# Altium footprint library Microchip Power Management Line Regulator.PcbLib: 79 footprints (part 1 of 5)
Each footprint in its own frame and in the unit in brackets; x right, y up, seen from the top. Pads: shape width x height; smd on the part's side, far side on the other; paste and mask are expansions set on the pad; w line width, h text height; cw(c..) or ccw(c..) is an arc to the next point about the centre after c.
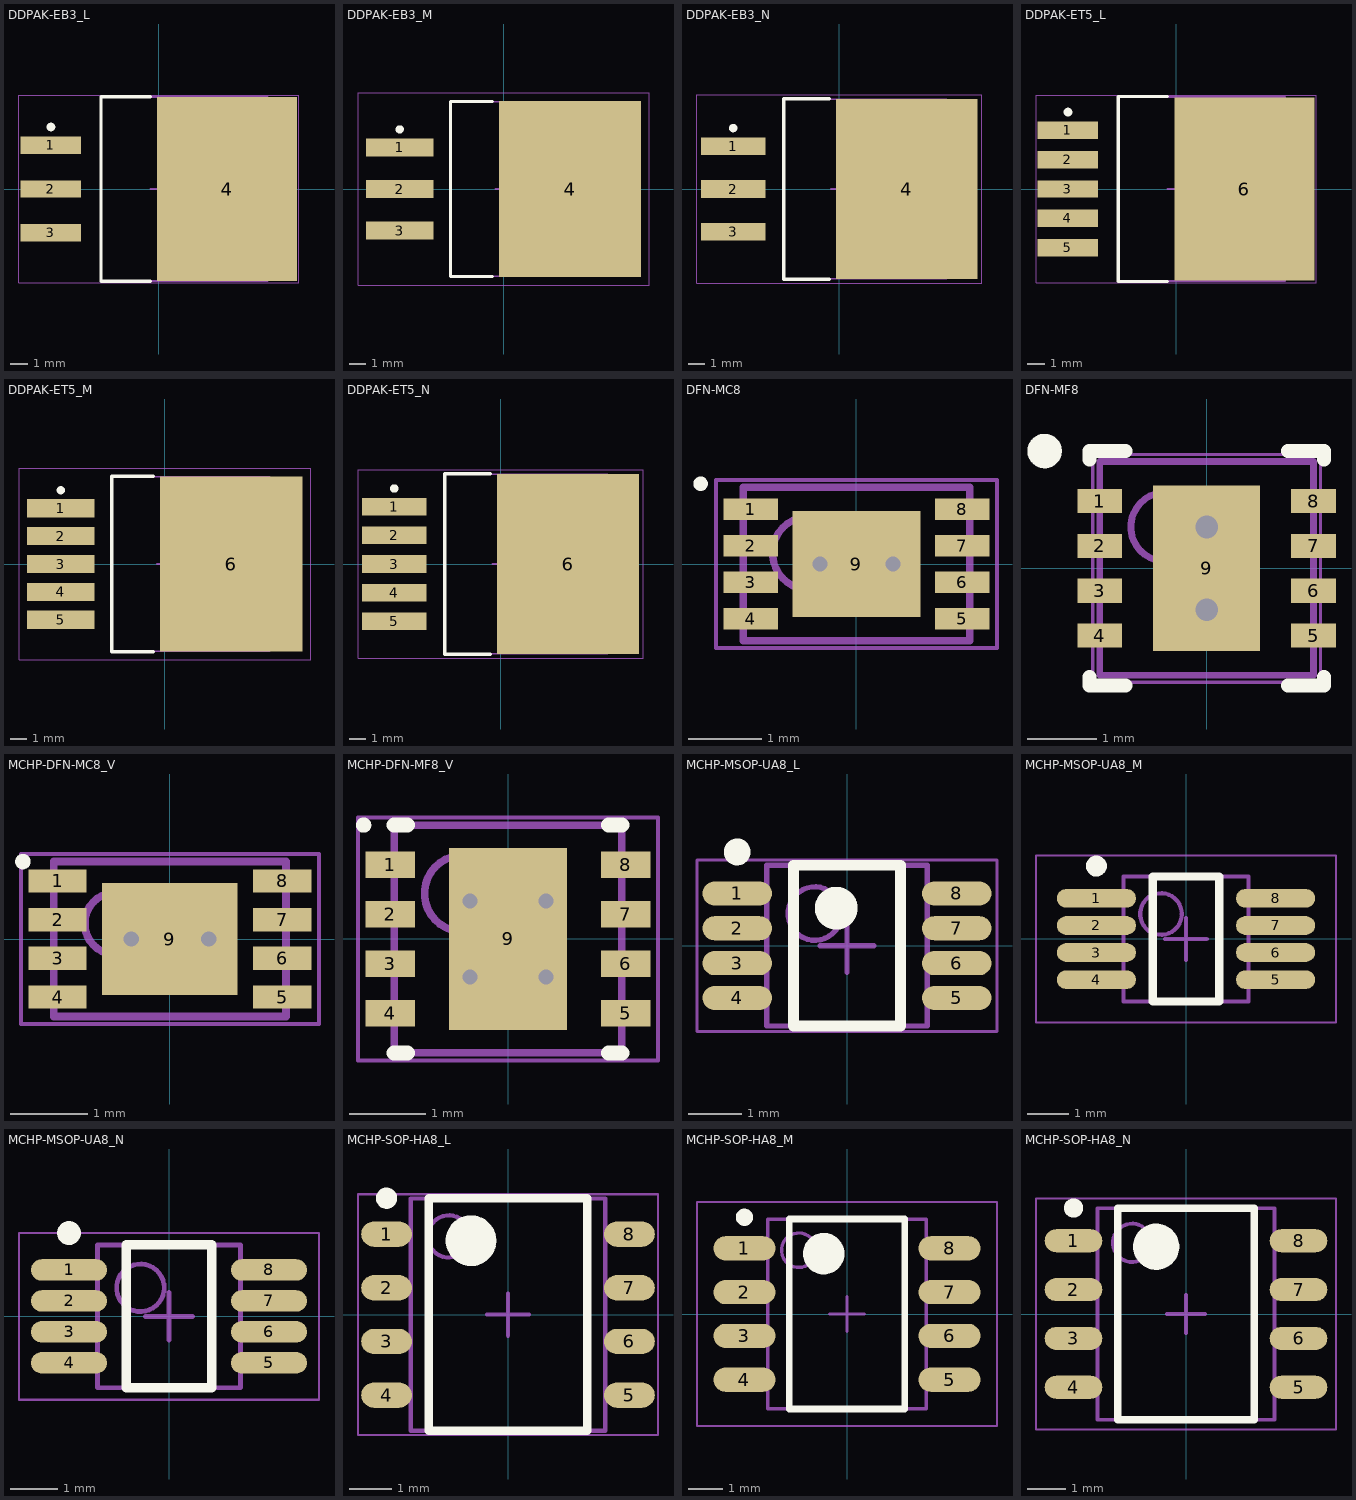
[diagram p0: the footprints below, top view; thin cyan lines are the x and y axes]

## DDPAK-EB3_L [mm] "D2-PAK, 4-Leads, Body 9x10.2mm, Pitch 2.54mm, Lead Span 14.9mm, IPC High Density"
height 4.83
pads (4):
  rect 3.5x1 smd: 1(-6.25,2.54) 2(-6.25,0) 3(-6.25,-2.54)
  rect 8.1x10.65 smd: 4(3.95,0)
Top Overlay:
  circle w0.25: c-6.25,3.59 r0.125
  lines w0.2: -0.5,-5.35 -3.35,-5.35 -3.35,5.35 -0.5,5.35
Mechanical 13:
  lines w0.1: -3.35,-5.325 6.3,-5.325 6.3,5.325 -3.35,5.325 -3.35,-5.325
Mechanical 15:
  lines w0.05: -8.1,-5.425 8.1,-5.425 8.1,5.425 -8.1,5.425 -8.1,-5.425
  lines w0.1: -0.5,0 0.5,0 ; 0,-0.5 0,0.5
3D body: height 4.83, standoff 0, extent -3.35,-5.325 6.3,5.325

## DDPAK-EB3_M [mm] "D2-PAK, 4-Leads, Body 9x10.2mm, Pitch 2.54mm, Lead Span 14.9mm, IPC Low Density"
height 4.83
pads (4):
  rect 4.1x1.1 smd: 1(-6.35,2.54) 2(-6.35,0) 3(-6.35,-2.54)
  rect 8.7x10.75 smd: 4(4.05,0)
Top Overlay:
  circle w0.25: c-6.35,3.64 r0.125
  lines w0.2: -0.7,-5.35 -3.25,-5.35 -3.25,5.35 -0.7,5.35
Mechanical 13:
  lines w0.1: -3.25,-5.325 6.4,-5.325 6.4,5.325 -3.25,5.325 -3.25,-5.325
Mechanical 15:
  lines w0.05: -8.9,-5.875 8.9,-5.875 8.9,5.875 -8.9,5.875 -8.9,-5.875
  lines w0.1: -0.5,0 0.5,0 ; 0,-0.5 0,0.5
3D body: height 4.83, standoff 0, extent -3.25,-5.325 6.4,5.325

## DDPAK-EB3_N [mm] "D2-PAK, 4-Leads, Body 9x10.2mm, Pitch 2.54mm, Lead Span 14.9mm, IPC Medium Density"
height 4.83
pads (4):
  rect 3.8x1.05 smd: 1(-6.3,2.54) 2(-6.3,0) 3(-6.3,-2.54)
  rect 8.4x10.7 smd: 4(4,0)
Top Overlay:
  circle w0.25: c-6.3,3.615 r0.125
  lines w0.2: -0.6,-5.35 -3.3,-5.35 -3.3,5.35 -0.6,5.35
Mechanical 13:
  lines w0.1: -3.3,-5.325 6.35,-5.325 6.35,5.325 -3.3,5.325 -3.3,-5.325
Mechanical 15:
  lines w0.05: -8.45,-5.6 8.45,-5.6 8.45,5.6 -8.45,5.6 -8.45,-5.6
  lines w0.1: -0.5,0 0.5,0 ; 0,-0.5 0,0.5
3D body: height 4.83, standoff 0, extent -3.3,-5.325 6.35,5.325

## DDPAK-ET5_L [mm] "D2-PAK, 6-Leads, Body 9x10.2mm, Pitch 1.7mm, Lead Span 14.9mm, IPC High Density"
height 4.83
pads (6):
  rect 3.5x1 smd: 1(-6.25,3.4) 2(-6.25,1.7) 3(-6.25,0) 4(-6.25,-1.7) 5(-6.25,-3.4)
  rect 8.1x10.6 smd: 6(3.95,0)
Top Overlay:
  circle w0.25: c-6.25,4.45 r0.125
  lines w0.2: -0.5,-5.35 -3.35,-5.35 -3.35,5.35 -0.5,5.35
Mechanical 13:
  lines w0.1: -3.35,-5.325 6.3,-5.325 6.3,5.325 -3.35,5.325 -3.35,-5.325
Mechanical 15:
  lines w0.05: -8.1,-5.425 8.1,-5.425 8.1,5.425 -8.1,5.425 -8.1,-5.425
  lines w0.1: -0.5,0 0.5,0 ; 0,-0.5 0,0.5
3D body: height 4.83, standoff 0, extent -3.35,-5.325 6.3,5.325

## DDPAK-ET5_M [mm] "D2-PAK, 6-Leads, Body 9x10.2mm, Pitch 1.7mm, Lead Span 14.9mm, IPC Low Density"
height 4.83
pads (6):
  rect 4.1x1.1 smd: 1(-6.35,3.4) 2(-6.35,1.7) 3(-6.35,0) 4(-6.35,-1.7) 5(-6.35,-3.4)
  rect 8.7x10.7 smd: 6(4.05,0)
Top Overlay:
  circle w0.25: c-6.35,4.5 r0.125
  lines w0.2: -0.7,-5.35 -3.25,-5.35 -3.25,5.35 -0.7,5.35
Mechanical 13:
  lines w0.1: -3.25,-5.325 6.4,-5.325 6.4,5.325 -3.25,5.325 -3.25,-5.325
Mechanical 15:
  lines w0.05: -8.9,-5.85 8.9,-5.85 8.9,5.85 -8.9,5.85 -8.9,-5.85
  lines w0.1: -0.5,0 0.5,0 ; 0,-0.5 0,0.5
3D body: height 4.83, standoff 0, extent -3.25,-5.325 6.4,5.325

## DDPAK-ET5_N [mm] "D2-PAK, 6-Leads, Body 9x10.2mm, Pitch 1.7mm, Lead Span 14.9mm, IPC Medium Density"
height 4.83
pads (6):
  rect 3.8x1.05 smd: 1(-6.3,3.4) 2(-6.3,1.7) 3(-6.3,0) 4(-6.3,-1.7) 5(-6.3,-3.4)
  rect 8.4x10.65 smd: 6(4,0)
Top Overlay:
  circle w0.25: c-6.3,4.475 r0.125
  lines w0.2: -0.6,-5.35 -3.3,-5.35 -3.3,5.35 -0.6,5.35
Mechanical 13:
  lines w0.1: -3.3,-5.325 6.35,-5.325 6.35,5.325 -3.3,5.325 -3.3,-5.325
Mechanical 15:
  lines w0.05: -8.45,-5.575 8.45,-5.575 8.45,5.575 -8.45,5.575 -8.45,-5.575
  lines w0.1: -0.5,0 0.5,0 ; 0,-0.5 0,0.5
3D body: height 4.83, standoff 0, extent -3.3,-5.325 6.35,5.325

## DFN-MC8 [mm] "SON, 8-Leads, Body 2x3mm, Pitch 0.5mm, Microchip Recommended"
height 1
pads (9):
  rect 0.75x0.3 smd: 1(-1.45,0.75) 2(-1.45,0.25) 3(-1.45,-0.25) 4(-1.45,-0.75) 5(1.45,-0.75) 6(1.45,-0.25) 7(1.45,0.25) 8(1.45,0.75)
  rect 1.75x1.45 smd: 9(0,0)
via 0.5,0 diameter 0.5 hole 0.2
via -0.5,0 diameter 0.5 hole 0.2
Top Overlay:
  circle w0.1: c-2.135,1.1 r0.05
Mechanical 13:
  circle w0.1: c-0.65,0.15 r0.5
  lines w0.1: -1.55,-1.05 -1.55,1.05 1.55,1.05 1.55,-1.05 -1.55,-1.05
Mechanical 15:
  lines w0.05: -1.925,-1.15 -1.925,1.15 1.925,1.15 1.925,-1.15 -1.925,-1.15
  lines w0.1: -0.5,0 0.5,0 ; 0,-0.5 0,0.5
3D body: height 1, standoff 0, extent -1.549,-1.049 1.549,1.049

## DFN-MF8 [mm] "SON, 8-Leads, Body 3x3mm, Pitch 0.65mm, Microchip Recommended"
height 1
pads (9):
  rect 0.65x0.35 smd: 1(-1.55,0.975) 2(-1.55,0.325) 3(-1.55,-0.325) 4(-1.55,-0.975) 5(1.55,-0.975) 6(1.55,-0.325) 7(1.55,0.325) 8(1.55,0.975)
  rect 1.55x2.4 smd: 9(0,0)
via 0,0.6 diameter 0.66 hole 0.33
via 0,-0.6 diameter 0.66 hole 0.33
Top Overlay:
  circle w0.25: c-2.35,1.7 r0.125
  lines w0.2: -1.7,-1.575 -1.7,-1.7 -1.175,-1.7 ; -1.7,1.575 -1.7,1.7 -1.175,1.7 ; 1.175,-1.7 1.7,-1.7 1.7,-1.575 ; 1.175,1.7 1.7,1.7 1.7,1.575
Mechanical 13:
  circle w0.1: c-0.6,0.6 r0.5
  lines w0.1: -1.55,-1.55 -1.55,1.55 1.55,1.55 1.55,-1.55 -1.55,-1.55
Mechanical 15:
  lines w0.05: -1.65,-1.65 -1.65,1.65 1.65,1.65 1.65,-1.65 -1.65,-1.65
  lines w0.1: -0.5,0 0.5,0 ; 0,-0.5 0,0.5
3D body: height 1, standoff 0, extent -1.55,-1.55 1.55,1.55

## MCHP-DFN-MC8_V [mm] "SON, 8-Leads, Body 3x2mm, Pitch 0.5mm, Thermal Pad 1.45x1.75mm"
height 1
pads (9):
  rect 0.75x0.3 smd mask+0.102: 1(-1.45,0.75) 2(-1.45,0.25) 3(-1.45,-0.25) 4(-1.45,-0.75) 5(1.45,-0.75) 6(1.45,-0.25) 7(1.45,0.25) 8(1.45,0.75)
  rect 1.75x1.45 smd mask+0.102: 9(0,0)
via 0.5,0 diameter 0.5 hole 0.2
via -0.5,0 diameter 0.5 hole 0.2
Top Overlay:
  circle w0.1: c-1.9,1 r0.05
Mechanical 13:
  circle w0.1: c-0.7,0.2 r0.4
  lines w0.1: -1.5,-1 1.5,-1 1.5,1 -1.5,1 -1.5,-1
Mechanical 15:
  lines w0.05: -1.925,-1.1 1.925,-1.1 1.925,1.1 -1.925,1.1 -1.925,-1.1
  lines w0.1: -0.5,0 0.5,0 ; 0,-0.5 0,0.5
3D body: height 1, standoff 0, extent -1.5,-1 1.5,1

## MCHP-DFN-MF8_V [mm] "SON, 8-Leads, Body 3x3mm, Pitch 0.65mm, Thermal Pad 2.4x1.55mm"
height 1
pads (9):
  rect 0.65x0.35 smd: 1(-1.55,0.975) 2(-1.55,0.325) 3(-1.55,-0.325) 4(-1.55,-0.975) 5(1.55,-0.975) 6(1.55,-0.325) 7(1.55,0.325) 8(1.55,0.975)
  rect 1.55x2.4 smd: 9(0,0)
via -0.5,0.5 diameter 0.5 hole 0.2
via 0.5,0.5 diameter 0.5 hole 0.2
via -0.5,-0.5 diameter 0.5 hole 0.2
via 0.5,-0.5 diameter 0.5 hole 0.2
Top Overlay:
  circle w0.1: c-1.9,1.5 r0.05
  lines w0.2: -1.5,-1.5 -1.325,-1.5 ; -1.5,1.5 -1.325,1.5 ; 1.325,-1.5 1.5,-1.5 ; 1.325,1.5 1.5,1.5
Mechanical 13:
  circle w0.1: c-0.6,0.6 r0.5
  lines w0.1: -1.5,-1.5 -1.5,1.5 1.5,1.5 1.5,-1.5 -1.5,-1.5
Mechanical 15:
  lines w0.05: -1.975,-1.6 -1.975,1.6 1.975,1.6 1.975,-1.6 -1.975,-1.6
  lines w0.1: -0.5,0 0.5,0 ; 0,-0.5 0,0.5
3D body: height 1, standoff 0, extent -1.5,-1.5 1.5,1.5

## MCHP-MSOP-UA8_L [mm] "SOP, 8-Leads, Body 3x3mm, Pitch 0.65mm, IPC High Density"
height 1.1
pads (8):
  oval 1.3x0.45 smd: 1(-2.05,0.975) 2(-2.05,0.325) 3(-2.05,-0.325) 4(-2.05,-0.975) 5(2.05,-0.975) 6(2.05,-0.325) 7(2.05,0.325) 8(2.05,0.975)
Top Overlay:
  circle w0.25: c-2.05,1.75 r0.125
  circle w0.4: c-0.2,0.7 r0.2
  lines w0.2: -1,-1.5 -1,1.5 1,1.5 1,-1.5 -1,-1.5
Mechanical 13:
  circle w0.1: c-0.6,0.6 r0.5
  lines w0.1: -1.5,-1.5 -1.5,1.5 1.5,1.5 1.5,-1.5 -1.5,-1.5
Mechanical 15:
  lines w0.05: -2.8,-1.6 -2.8,1.6 2.8,1.6 2.8,-1.6 -2.8,-1.6
  lines w0.1: -0.5,0 0.5,0 ; 0,-0.5 0,0.5
3D body: height 1.1, standoff 0, extent -1.5,-1.5 1.5,1.5

## MCHP-MSOP-UA8_M [mm] "SOP, 8-Leads, Body 3x3mm, Pitch 0.65mm, IPC Low Density"
height 1.1
pads (8):
  oval 1.9x0.45 smd: 1(-2.15,0.975) 2(-2.15,0.325) 3(-2.15,-0.325) 4(-2.15,-0.975) 5(2.15,-0.975) 6(2.15,-0.325) 7(2.15,0.325) 8(2.15,0.975)
Top Overlay:
  circle w0.25: c-2.15,1.75 r0.125
  lines w0.2: -0.8,-1.5 -0.8,1.5 0.8,1.5 0.8,-1.5 -0.8,-1.5
Mechanical 13:
  circle w0.1: c-0.6,0.6 r0.5
  lines w0.1: -1.5,-1.5 -1.5,1.5 1.5,1.5 1.5,-1.5 -1.5,-1.5
Mechanical 15:
  lines w0.05: -3.6,-2 -3.6,2 3.6,2 3.6,-2 -3.6,-2
  lines w0.1: -0.5,0 0.5,0 ; 0,-0.5 0,0.5
3D body: height 1.1, standoff 0, extent -1.5,-1.5 1.5,1.5

## MCHP-MSOP-UA8_N [mm] "SOP, 8-Leads, Body 3x3mm, Pitch 0.65mm, IPC Medium Density"
height 1.1
pads (8):
  oval 1.6x0.45 smd: 1(-2.1,0.975) 2(-2.1,0.325) 3(-2.1,-0.325) 4(-2.1,-0.975) 5(2.1,-0.975) 6(2.1,-0.325) 7(2.1,0.325) 8(2.1,0.975)
Top Overlay:
  circle w0.25: c-2.1,1.75 r0.125
  lines w0.2: -0.9,-1.5 -0.9,1.5 0.9,1.5 0.9,-1.5 -0.9,-1.5
Mechanical 13:
  circle w0.1: c-0.6,0.6 r0.5
  lines w0.1: -1.5,-1.5 -1.5,1.5 1.5,1.5 1.5,-1.5 -1.5,-1.5
Mechanical 15:
  lines w0.05: -3.15,-1.75 -3.15,1.75 3.15,1.75 3.15,-1.75 -3.15,-1.75
  lines w0.1: -0.5,0 0.5,0 ; 0,-0.5 0,0.5
3D body: height 1.1, standoff 0, extent -1.5,-1.5 1.5,1.5

## MCHP-SOP-HA8_L [mm] "SOP, 8-Leads, Body 5.2x4.4mm, Pitch 1.27mm, IPC High Density"
height 1.75
pads (8):
  oval 1.2x0.6 smd: 1(-2.875,1.905) 2(-2.875,0.635) 3(-2.875,-0.635) 4(-2.875,-1.905) 5(2.875,-1.905) 6(2.875,-0.635) 7(2.875,0.635) 8(2.875,1.905)
Top Overlay:
  circle w0.25: c-2.875,2.755 r0.125
  circle w0.6: c-0.875,1.75 r0.3
  lines w0.2: -1.875,-2.75 -1.875,2.75 1.875,2.75 1.875,-2.75 -1.875,-2.75
Mechanical 13:
  circle w0.1: c-1.4,1.85 r0.5
  lines w0.1: -2.3,-2.75 -2.3,2.75 2.3,2.75 2.3,-2.75 -2.3,-2.75
Mechanical 15:
  lines w0.05: -3.55,-2.85 -3.55,2.85 3.55,2.85 3.55,-2.85 -3.55,-2.85
  lines w0.1: -0.5,0 0.5,0 ; 0,-0.5 0,0.5
3D body: height 1.75, standoff 0, extent -2.3,-2.75 2.3,2.75

## MCHP-SOP-HA8_M [mm] "SOP, 8-Leads, Body 5.2x4.4mm, Pitch 1.27mm, IPC Low Density"
height 1.75
pads (8):
  oval 1.8x0.7 smd: 1(-2.975,1.905) 2(-2.975,0.635) 3(-2.975,-0.635) 4(-2.975,-1.905) 5(2.975,-1.905) 6(2.975,-0.635) 7(2.975,0.635) 8(2.975,1.905)
Top Overlay:
  circle w0.25: c-2.975,2.805 r0.125
  circle w0.6: c-0.675,1.75 r0.3
  lines w0.2: -1.675,-2.75 -1.675,2.75 1.675,2.75 1.675,-2.75 -1.675,-2.75
Mechanical 13:
  circle w0.1: c-1.4,1.85 r0.5
  lines w0.1: -2.3,-2.75 -2.3,2.75 2.3,2.75 2.3,-2.75 -2.3,-2.75
Mechanical 15:
  lines w0.05: -4.35,-3.25 -4.35,3.25 4.35,3.25 4.35,-3.25 -4.35,-3.25
  lines w0.1: -0.5,0 0.5,0 ; 0,-0.5 0,0.5
3D body: height 1.75, standoff 0, extent -2.3,-2.75 2.3,2.75

## MCHP-SOP-HA8_N [mm] "SOP, 8-Leads, Body 5.2x4.4mm, Pitch 1.27mm, IPC Medium Density"
height 1.75
pads (8):
  oval 1.5x0.6 smd: 1(-2.925,1.905) 2(-2.925,0.635) 3(-2.925,-0.635) 4(-2.925,-1.905) 5(2.925,-1.905) 6(2.925,-0.635) 7(2.925,0.635) 8(2.925,1.905)
Top Overlay:
  circle w0.25: c-2.925,2.755 r0.125
  circle w0.6: c-0.775,1.75 r0.3
  lines w0.2: -1.775,-2.75 -1.775,2.75 1.775,2.75 1.775,-2.75 -1.775,-2.75
Mechanical 13:
  circle w0.1: c-1.4,1.85 r0.5
  lines w0.1: -2.3,-2.75 -2.3,2.75 2.3,2.75 2.3,-2.75 -2.3,-2.75
Mechanical 15:
  lines w0.05: -3.9,-3 -3.9,3 3.9,3 3.9,-3 -3.9,-3
  lines w0.1: -0.5,0 0.5,0 ; 0,-0.5 0,0.5
3D body: height 1.75, standoff 0, extent -2.3,-2.75 2.3,2.75